# Altium footprint library SSW-112-01-L-S.PcbLib: 1 footprints
Each footprint in its own frame and in the unit in brackets; x right, y up, seen from the top. Pads: shape width x height; smd on the part's side, far side on the other; paste and mask are expansions set on the pad; w line width, h text height; cw(c..) or ccw(c..) is an arc to the next point about the centre after c.
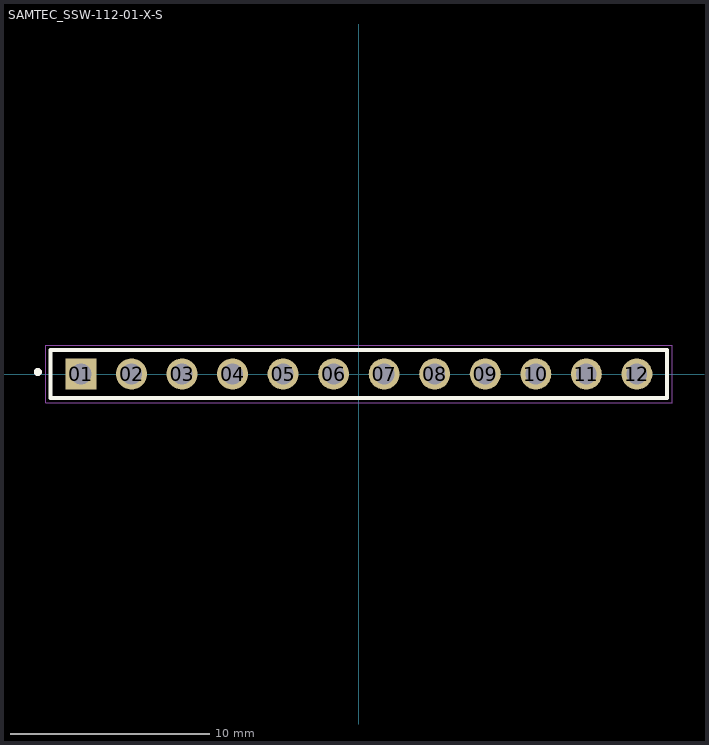
[diagram p0: the footprint, top view; thin cyan lines are the x and y axes]

## SAMTEC_SSW-112-01-X-S [mm]
pads (12):
  rect 1.56x1.56 hole 1.04: 01(-13.97,0)
  round 1.56 hole 1.04: 02(-11.43,0) 03(-8.89,0) 04(-6.35,0) 05(-3.81,0) 06(-1.27,0) 07(1.27,0) 08(3.81,0) 09(6.35,0) 10(8.89,0) 11(11.43,0) 12(13.97,0)
Top Overlay:
  circle w0.2: c-16.14,0.1 r0.1
  lines w0.2: -15.495,-1.205 15.495,-1.205 15.495,1.205 -15.495,1.205 -15.495,-1.205
Mechanical 13:
  circle w0.2: c-16.14,0.1 r0.1
  lines w0.1: -15.495,-1.205 -15.495,1.205 15.495,1.205 15.495,-1.205 -15.495,-1.205
  text "'.Designator'" at 6.958,1.984 h0.7
Mechanical 15:
  lines w0.05: -15.745,-1.455 -15.745,1.455 15.745,1.455 15.745,-1.455 -15.745,-1.455